# Altium schematic symbol library 2021-07-08_03-00-06.SchLib: 2 symbols
Pins are listed as number, name and electrical type; pins without a type are passive.

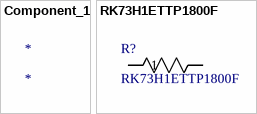
[diagram p0: symbols Component_1 to RK73H1ETTP1800F]

## Component_1
designator *

## RK73H1ETTP1800F
designator R?
No Description Available; Built_By: EMA_Justin; Vendor: KOA Speer; SourceLibrary: KOA_Speer_2018-12-15; Copyright: Copyright (C) 2016 Accelerated Designs. All rights reserved; Manufacturer_Part_Number: RK73H1ETTP1800F; RefDes: RefDes; Type: DEV
footprint RES_RK73H1E_KOA
pins: 1, 2